# Altium footprint library Transistor_Power.PcbLib: 3 footprints
Each footprint in its own frame and in the unit in brackets; x right, y up, seen from the top. Pads: shape width x height; smd on the part's side, far side on the other; paste and mask are expansions set on the pad; w line width, h text height; cw(c..) or ccw(c..) is an arc to the next point about the centre after c.
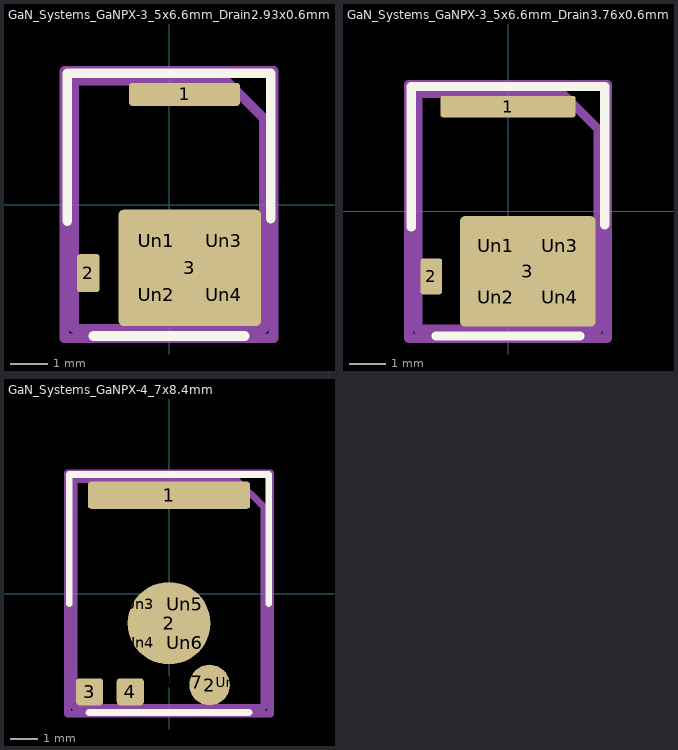
[diagram p0: the footprints below, top view; thin cyan lines are the x and y axes]

## GaN_Systems_GaNPX-3_5x6.6mm_Drain2.93x0.6mm [mm]
pads (7):
  rrect25% 2.93x0.6 smd: 1(0.41,2.91)
  rrect25% 0.6x1 smd: 2(-2.13,-1.81)
  rrect8% 3.76x3.07 smd: 3(0.55,-1.67)
  rrect20% 1.58x1.235 on Top Paste: Un1(-0.34,-0.953) Un2(-0.34,-2.388) Un3(1.44,-0.953) Un4(1.44,-2.388)
F.SilkS:
  lines w0.254: -2.69,-0.433 -2.69,3.47 2.69,3.47 2.69,-0.375 ; -2,-3.47 2,-3.47
F.Fab:
  lines w0.254: -2.505,-3.28 -2.505,3.28 1.505,3.28 2.505,2.28 2.505,-3.28 -2.505,-3.28
  text "'.Designator'" at 0.84,-4.047 h1
F.CrtYd:
  lines w0.254: -2.76,-3.53 -2.76,3.53 2.76,3.53 2.76,-3.53 -2.76,-3.53

## GaN_Systems_GaNPX-3_5x6.6mm_Drain3.76x0.6mm [mm]
pads (7):
  rrect25% 3.76x0.6 smd: 1(0,2.91)
  rrect25% 0.6x1 smd: 2(-2.13,-1.81)
  rrect8% 3.76x3.07 smd: 3(0.55,-1.67)
  rrect20% 1.58x1.235 on Top Paste: Un1(-0.34,-0.953) Un2(-0.34,-2.388) Un3(1.44,-0.953) Un4(1.44,-2.388)
F.SilkS:
  lines w0.254: -2.69,-0.433 -2.69,3.47 2.69,3.47 2.69,-0.375 ; -2,-3.47 2,-3.47
F.Fab:
  lines w0.254: -2.505,-3.28 -2.505,3.28 1.505,3.28 2.505,2.28 2.505,-3.28 -2.505,-3.28
  text "'.Designator'" at 0.84,-4.047 h1
F.CrtYd:
  lines w0.254: -2.76,-3.53 -2.76,3.53 2.76,3.53 2.76,-3.53 -2.76,-3.53

## GaN_Systems_GaNPX-4_7x8.4mm [mm]
pads (15):
  rrect25% 6x1 smd: 1(0,3.63)
  round 3.05 smd: 2(0,-1.1)
  round 1.5 smd: 2(1.5,-3.38)
  rrect25% 1x1 smd: 3(-2.93,-3.63) 4(-1.43,-3.63)
  rrect20% 1.3x1.225 on Top Paste: Un1(-2.575,-0.387) Un2(-2.575,-1.813) Un3(-1.075,-0.387) Un4(-1.075,-1.813)
  rrect20% 1.625x1.225 on Top Paste: Un5(0.587,-0.387) Un6(0.587,-1.813) Un8(2.412,-0.387) Un9(2.412,-1.813)
  rrect20% 1.625x1.3 on Top Paste: Un7(0.587,-3.275) Un10(2.412,-3.275)
F.SilkS:
  lines w0.254: -3.685,-0.375 -3.685,4.39 3.685,4.39 3.685,-0.375 ; -2.95,-4.39 2.95,-4.39
F.Fab:
  lines w0.254: -3.5,-4.2 -3.5,4.2 2.5,4.2 3.5,3.2 3.5,-4.2 -3.5,-4.2
  text "'.Designator'" at 0.84,-4.047 h1
F.CrtYd:
  lines w0.254: -3.75,-4.45 -3.75,4.45 3.75,4.45 3.75,-4.45 -3.75,-4.45